# Altium schematic symbol library Microshemy.SchLib: 50 symbols
Pins are listed as number, name and electrical type; pins without a type are passive.

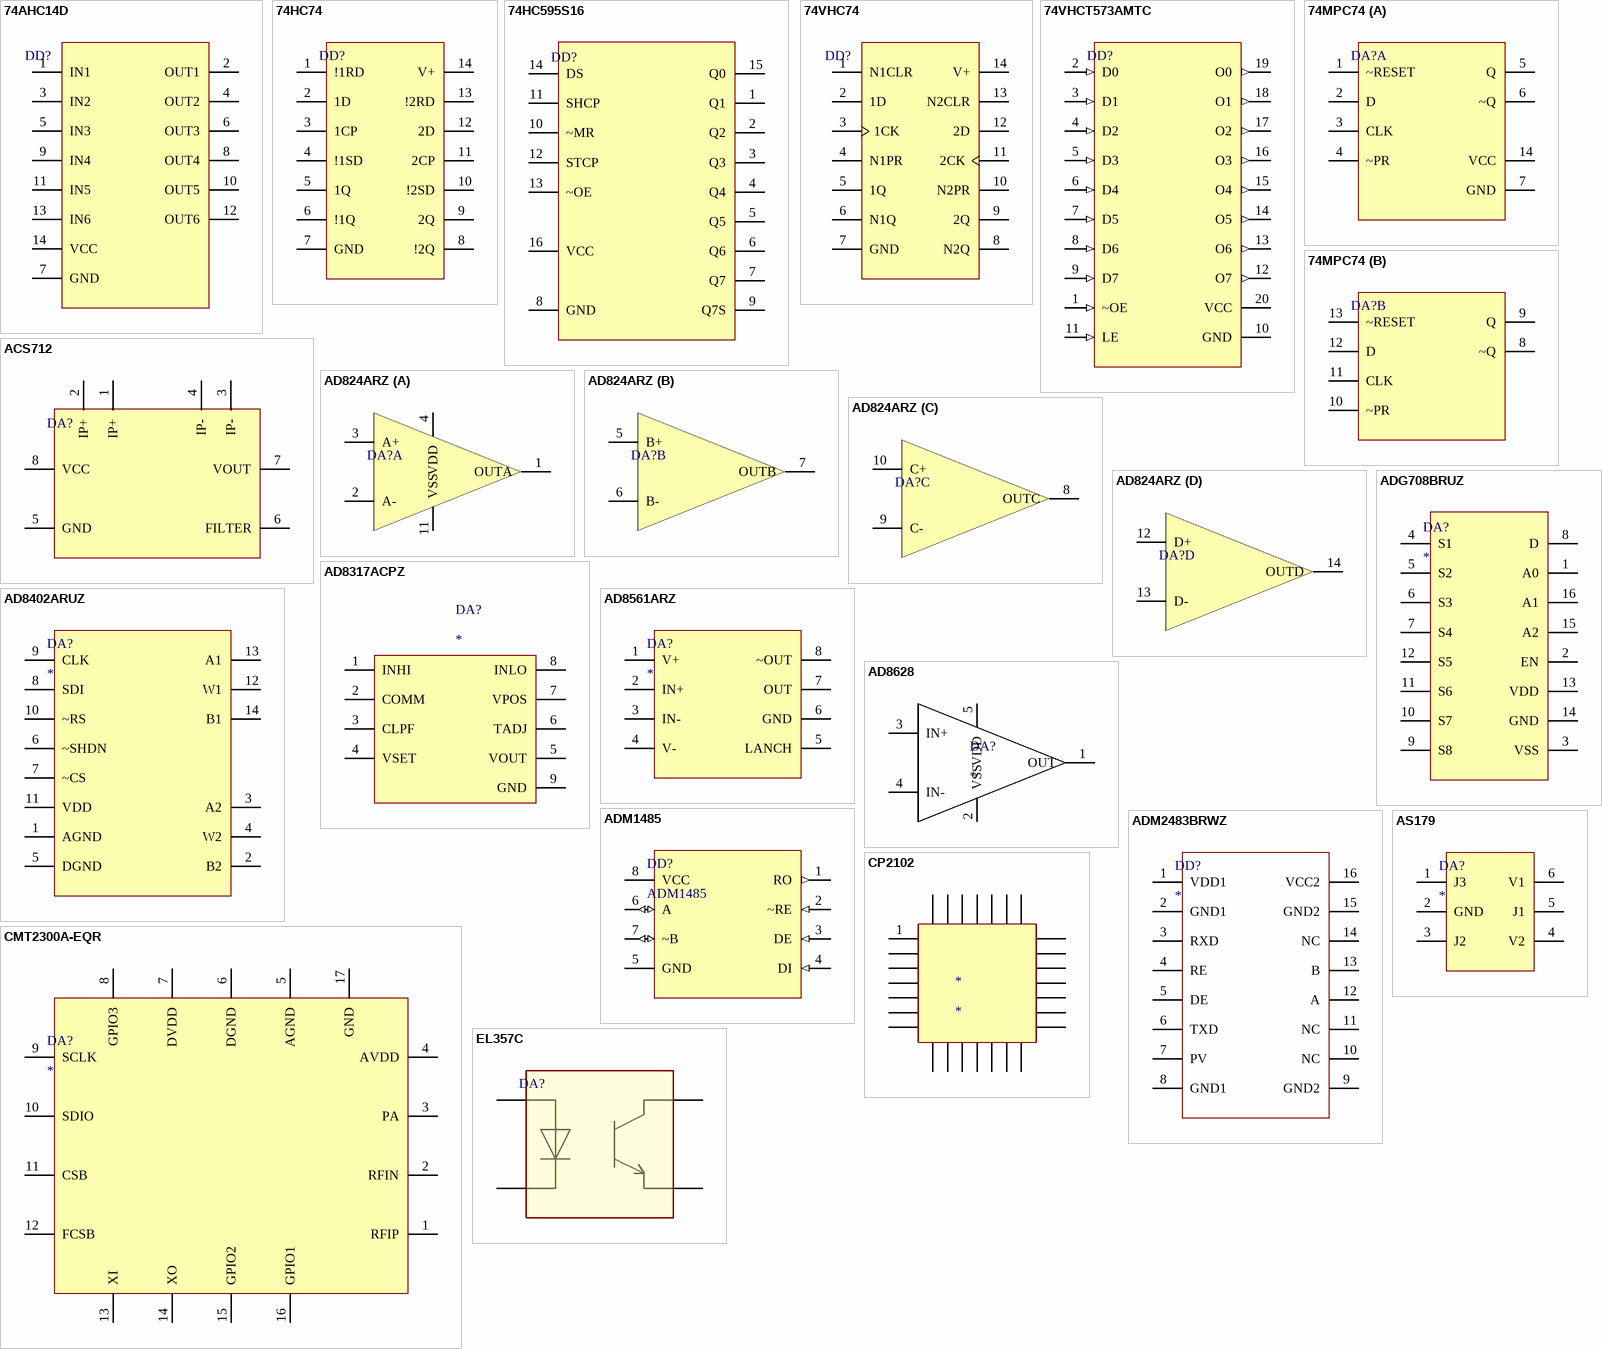
[diagram p0: symbols 74AHC14D to EL357C]

## 74AHC14D
designator DD?  (value not drawn)
footprint SOIC14
pins: 1 IN1, 2 OUT1, 3 IN2, 4 OUT2, 5 IN3, 6 OUT3, 7 GND, 8 OUT4, 9 IN4, 10 OUT5, 11 IN5, 12 OUT6, 13 IN6, 14 VCC

## 74HC74
designator DD?  (value not drawn)
footprint SOIC14
pins: 1 !1RD, 2 1D, 3 1CP, 4 !1SD, 5 1Q, 6 !1Q, 7 GND, 8 !2Q, 9 2Q, 10 !2SD, 11 2CP, 12 2D, 13 !2RD, 14 V+

## 74HC595S16
designator DD?  (value not drawn)
footprint SOIC16
pins: 1 Q1, 2 Q2, 3 Q3, 4 Q4, 5 Q5, 6 Q6, 7 Q7, 8 GND, 9 Q7S, 10 ~MR, 11 SHCP, 12 STCP, 13 ~OE, 14 DS, 15 Q0, 16 VCC

## 74VHC74
designator DD?  (value not drawn)
footprint TSOP14 (TSOP, 14-Leads, Body 5,05x4,40mm, Pitch 0,65mm, IPC Medium Density)
pins: 1 N1CLR, 2 1D, 3 1CK, 4 N1PR, 5 1Q, 6 N1Q, 7 GND, 8 N2Q, 9 2Q, 10 N2PR, 11 2CK, 12 2D, 13 N2CLR, 14 V+

## 74VHCT573AMTC
designator DD?  (value not drawn)
Order: *
footprint TSSOP-20
pins: 1 ~OE (in), 2 D0 (in), 3 D1 (in), 4 D2 (in), 5 D3 (in), 6 D4 (in), 7 D5 (in), 8 D6 (in), 9 D7 (in), 10 GND (power), 11 LE (in), 12 O7 (out), 13 O6 (out), 14 O5 (out), 15 O4 (out), 16 O3 (out), 17 O2 (out), 18 O1 (out), 19 O0 (out), 20 VCC (power)

## 74МРС74
designator DA?  (value not drawn)
footprint TSOP14 (TSOP, 14-Leads, Body 5,05x4,40mm, Pitch 0,65mm, IPC Medium Density)
part A pins: 1 ~RESET, 2 D, 3 CLK, 4 ~PR, 5 Q, 6 ~Q, 7 GND, 14 VCC
part B pins: 8 ~Q, 9 Q, 10 ~PR, 11 CLK, 12 D, 13 ~RESET

## ACS712
designator DA?  (value not drawn)
Model1: ACS712ELCTR-05B-T; Model2: ACS712ELCTR-20A-T; Model3: ACS712ELCTR-30A-T; Order: *
footprint SOIC8
pins: 1 IP+, 2 IP+, 3 IP-, 4 IP-, 5 GND, 6 FILTER, 7 VOUT, 8 VCC

## AD824ARZ
designator DA?  (value not drawn)
footprint SOIC14
part A pins: 1 OUTA, 2 A-, 3 A+, 4 VDD, 11 VSS
part B pins: 5 B+, 6 B-, 7 OUTB
part C pins: 8 OUTC, 9 C-, 10 C+
part D pins: 12 D+, 13 D-, 14 OUTD

## AD8317ACPZ
designator DA?
Логарифмический детектор
footprint LFCSP (For AD8317)
pins: 1 INHI, 2 COMM, 3 CLPF, 4 VSET, 5 VOUT, 6 TADJ, 7 VPOS, 8 INLO, 9 GND

## AD8402ARUZ
designator DA?
footprint SOIC14
pins: 1 AGND, 2 B2, 3 A2, 4 W2, 5 DGND, 6 ~SHDN, 7 ~CS, 8 SDI, 9 CLK, 10 ~RS, 11 VDD, 12 W1, 13 A1, 14 B1

## AD8561ARZ
designator DA?
footprint SOIC8
pins: 1 V+, 2 IN+, 3 IN-, 4 V-, 5 LANCH, 6 GND, 7 OUT, 8 ~OUT

## AD8628
designator DA?
footprint SOT23-5
pins: 1 OUT, 2 VSS, 3 IN+, 4 IN-, 5 VDD

## ADG708BRUZ
designator DA?
footprint TSOP16
pins: 1 A0, 2 EN, 3 VSS, 4 S1, 5 S2, 6 S3, 7 S4, 8 D, 9 S8, 10 S7, 11 S6, 12 S5, 13 VDD, 14 GND, 15 A2, 16 A1

## ADM1485
designator DD?
Order: *
footprint SOIC8
pins: 1 RO (out), 2 ~RE (in), 3 DE (in), 4 DI (in), 5 GND (power), 6 A (io), 7 ~B (io), 8 VCC (power)

## ADM2483BRWZ
designator DD?
footprint SOIC16
pins: 1 VDD1, 2 GND1, 3 RXD, 4 RE, 5 DE, 6 TXD, 7 PV, 8 GND1, 9 GND2, 10 NC, 11 NC, 12 A, 13 B, 14 NC, 15 GND2, 16 VCC2

## AS179
designator DA?
footprint SC70 (SV70 6-Leads, Body 2,00x2,20mm, Pitch 0,65mm, IPC Medium Density)
pins: 1 J3, 2 GND, 3 J2, 4 V2, 5 J1, 6 V1

## CMT2300A-EQR
designator DA?
footprint QFN16 3X3 (QFN, 16-Leads, Body 3,00x3,00mm, Pitch 0,50mm, Thermal Pad 1,65x1,65mm, IPC Medium Density)
pins: 1 RFIP, 2 RFIN, 3 PA, 4 AVDD, 5 AGND, 6 DGND, 7 DVDD, 8 GPIO3, 9 SCLK, 10 SDIO, 11 CSB, 12 FCSB, 13 XI, 14 XO, 15 GPIO2, 16 GPIO1, 17 GND

## CP2102
designator *
pins: 1, ?1, ?2, ?3, ?4, ?5, ?6, ?7, ?8, ?9, ?10, ?11, ?12, ?13, ?14, ?15, ?16, ?17, ?18, ?19, ?20, ?21, ?22, ?23, ?24, ?25, ?26, ?27

## EL357C
designator DA?  (value not drawn)
footprint SOP-4 (SOP, 4-Leads, Body 4,10x4,40mm, Pitch 1,95mm, IPC Medium Density)
pins: 1 26, 2 26, 3 E, 4 C

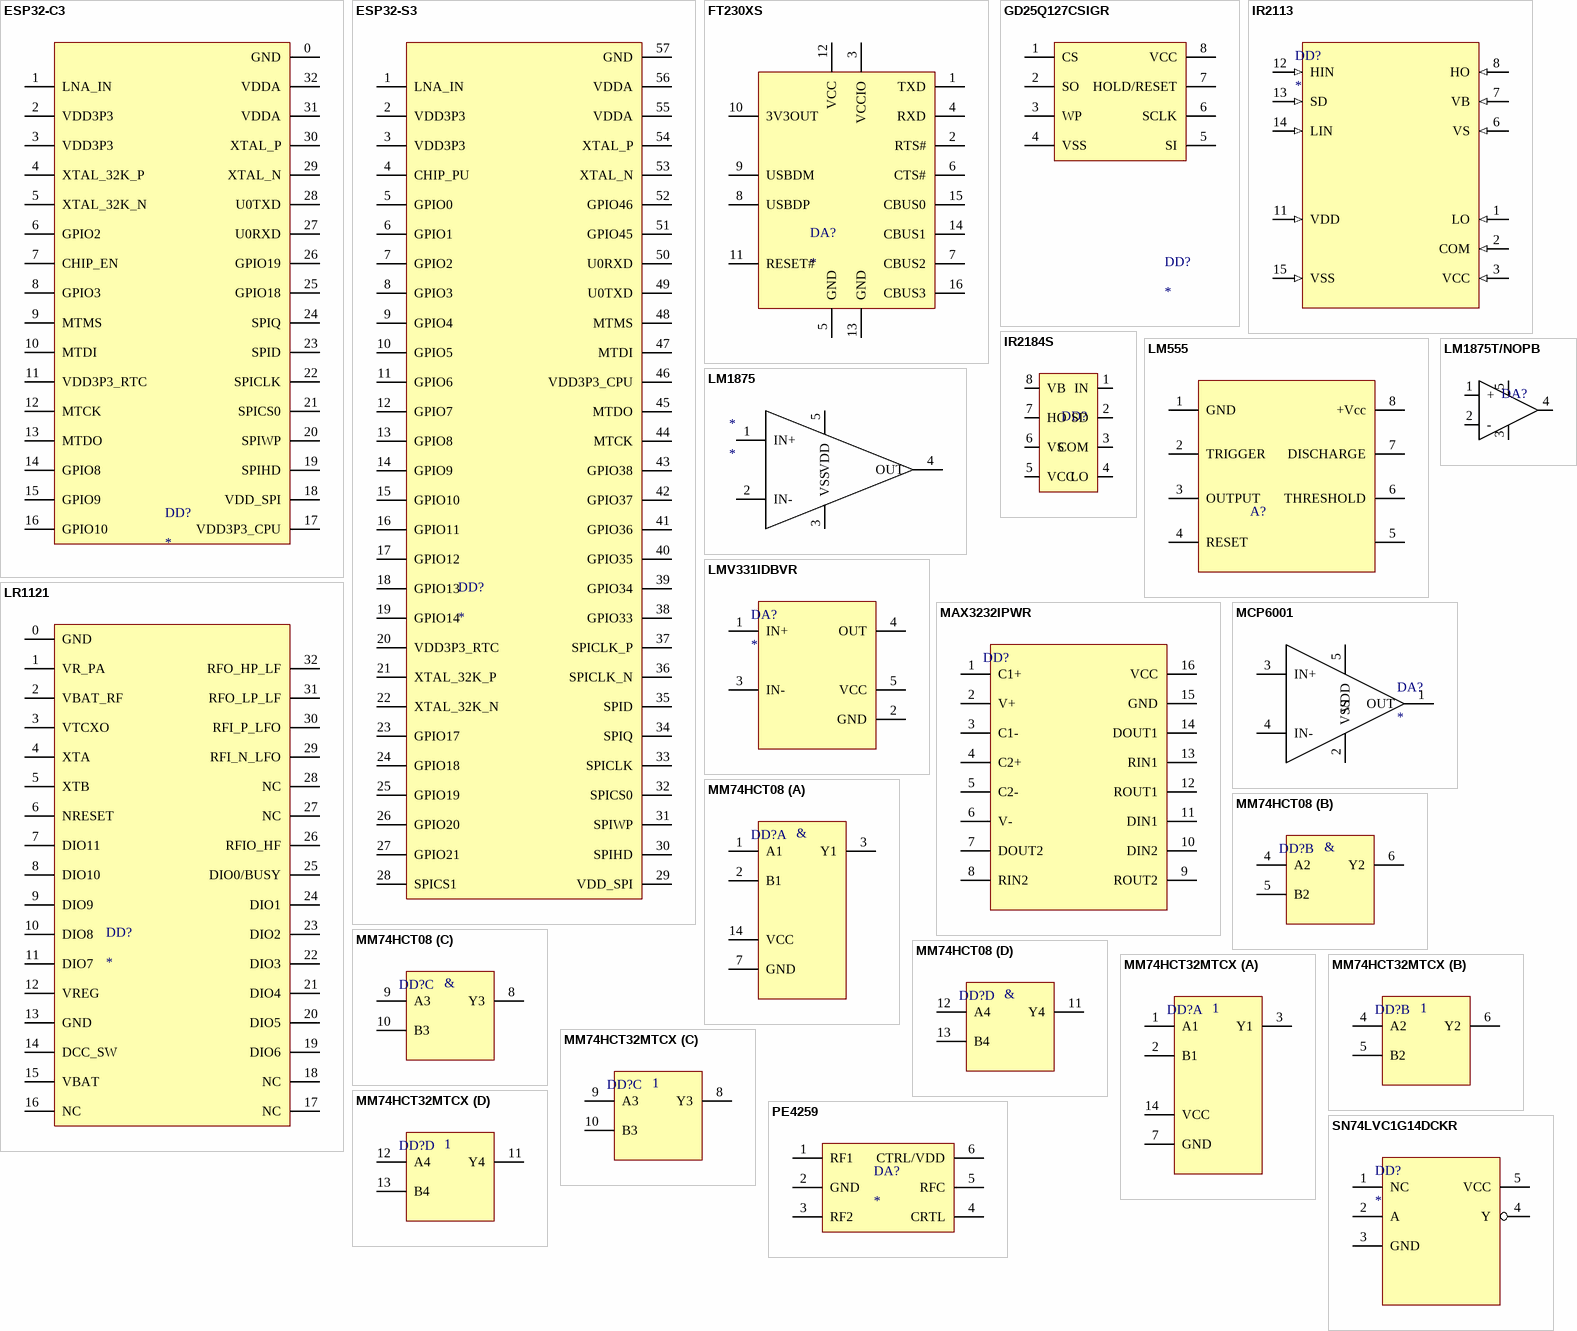
[diagram p1: symbols ESP32-C3 to SN74LVC1G14DCKR]

## ESP32-C3
designator DD?
footprint QFN32 5x5
pins: 0 GND, 1 LNA_IN, 2 VDD3P3, 3 VDD3P3, 4 XTAL_32K_P, 5 XTAL_32K_N, 6 GPIO2, 7 CHIP_EN, 8 GPIO3, 9 MTMS, 10 MTDI, 11 VDD3P3_RTC, 12 MTCK, 13 MTDO, 14 GPIO8, 15 GPIO9, 16 GPIO10, 17 VDD3P3_CPU, 18 VDD_SPI, 19 SPIHD, 20 SPIWP, 21 SPICS0, 22 SPICLK, 23 SPID, 24 SPIQ, 25 GPIO18, 26 GPIO19, 27 U0RXD, 28 U0TXD, 29 XTAL_N, 30 XTAL_P, 31 VDDA, 32 VDDA

## ESP32-S3
designator DD?
footprint QFN56 7X7
pins: 1 LNA_IN, 2 VDD3P3, 3 VDD3P3, 4 CHIP_PU, 5 GPIO0, 6 GPIO1, 7 GPIO2, 8 GPIO3, 9 GPIO4, 10 GPIO5, 11 GPIO6, 12 GPIO7, 13 GPIO8, 14 GPIO9, 15 GPIO10, 16 GPIO11, 17 GPIO12, 18 GPIO13, 19 GPIO14, 20 VDD3P3_RTC, 21 XTAL_32K_P, 22 XTAL_32K_N, 23 GPIO17, 24 GPIO18, 25 GPIO19, 26 GPIO20, 27 GPIO21, 28 SPICS1, 29 VDD_SPI, 30 SPIHD, 31 SPIWP, 32 SPICS0, 33 SPICLK, 34 SPIQ, 35 SPID, 36 SPICLK_N, 37 SPICLK_P, 38 GPIO33, 39 GPIO34, 40 GPIO35, 41 GPIO36, 42 GPIO37, 43 GPIO38, 44 MTCK, 45 MTDO, 46 VDD3P3_CPU, 47 MTDI, 48 MTMS, 49 U0TXD, 50 U0RXD, 51 GPIO45, 52 GPIO46, 53 XTAL_N, 54 XTAL_P, 55 VDDA, 56 VDDA, 57 GND

## FT230XS
designator DA?
footprint TSOP16
pins: 1 TXD, 2 RTS#, 3 VCCIO, 4 RXD, 5 GND, 6 CTS#, 7 CBUS2, 8 USBDP, 9 USBDM, 10 3V3OUT, 11 RESET#, 12 VCC, 13 GND, 14 CBUS1, 15 CBUS0, 16 CBUS3

## GD25Q127CSIGR
designator DD?
footprint SOIC8
pins: 1 CS, 2 SO, 3 WP, 4 VSS, 5 SI, 6 SCLK, 7 HOLD/RESET, 8 VCC

## IR2113
designator DD?
Order: *
footprint SOIC16
pins: 1 LO (in), 2 COM (in), 3 VCC (in), 6 VS (in), 7 VB (in), 8 HO (in), 11 VDD (in), 12 HIN (in), 13 SD (in), 14 LIN (in), 15 VSS (in)

## IR2184S
designator DD?
footprint SOIC8
pins: 1 IN, 2 SD, 3 COM, 4 LO, 5 VCC, 6 VS, 7 HO, 8 VB

## LM555
designator A?
Таймер
footprint SOIC8
pins: 1 GND, 2 TRIGGER, 3 OUTPUT, 4 RESET, 5 CONTROL, 6 THRESHOLD, 7 DISCHARGE, 8 +Vcc

## LM1875
designator *
pins: 1 IN+, 2 IN-, 3 VSS, 4 OUT, 5 VDD

## LM1875T/NOPB
designator DA?
footprint NDH0005D
pins: 1 +, 2 -, 3, 4, 5

## LMV331IDBVR
designator DA?
footprint SOT23-5
pins: 1 IN+, 2 GND, 3 IN-, 4 OUT, 5 VCC

## LR1121
designator DD?
footprint QFN32 5x5
pins: 0 GND, 1 VR_PA, 2 VBAT_RF, 3 VTCXO, 4 XTA, 5 XTB, 6 NRESET, 7 DIO11, 8 DIO10, 9 DIO9, 10 DIO8, 11 DIO7, 12 VREG, 13 GND, 14 DCC_SW, 15 VBAT, 16 NC, 17 NC, 18 NC, 19 DIO6, 20 DIO5, 21 DIO4, 22 DIO3, 23 DIO2, 24 DIO1, 25 DIO0/BUSY, 26 RFIO_HF, 27 NC, 28 NC, 29 RFI_N_LFO, 30 RFI_P_LFO, 31 RFO_LP_LF, 32 RFO_HP_LF

## MAX3232IPWR
designator DD?  (value not drawn)
footprint TSOP16
pins: 1 C1+, 2 V+, 3 C1-, 4 C2+, 5 C2-, 6 V-, 7 DOUT2, 8 RIN2, 9 ROUT2, 10 DIN2, 11 DIN1, 12 ROUT1, 13 RIN1, 14 DOUT1, 15 GND, 16 VCC

## MCP6001
designator DA?
footprint SOT23-5
pins: 1 OUT, 2 VSS, 3 IN+, 4 IN-, 5 VDD

## MM74HCT08
designator DD?  (value not drawn)
footprint TSOP14 (TSOP, 14-Leads, Body 5,05x4,40mm, Pitch 0,65mm, IPC Medium Density)
part A pins: 1 A1, 2 B1, 3 Y1, 7 GND, 14 VCC
part B pins: 4 A2, 5 B2, 6 Y2
part C pins: 8 Y3, 9 A3, 10 B3
part D pins: 11 Y4, 12 A4, 13 B4
part A text: &
part B text: &
part C text: &
part D text: &

## MM74HCT32MTCX
designator DD?  (value not drawn)
footprint TSOP14 (TSOP, 14-Leads, Body 5,05x4,40mm, Pitch 0,65mm, IPC Medium Density)
part A pins: 1 A1, 2 B1, 3 Y1, 7 GND, 14 VCC
part B pins: 4 A2, 5 B2, 6 Y2
part C pins: 8 Y3, 9 A3, 10 B3
part D pins: 11 Y4, 12 A4, 13 B4

## PE4259
designator DA?
footprint SC70-6 (SV70 6-Leads, Body 2,00x2,20mm, Pitch 0,65mm, IPC Medium Density)
pins: 1 RF1, 2 GND, 3 RF2, 4 CRTL, 5 RFC, 6 CTRL/VDD

## SN74LVC1G14DCKR
designator DD?
footprint SOT23-5
pins: 1 NC, 2 A, 3 GND, 4 Y, 5 VCC

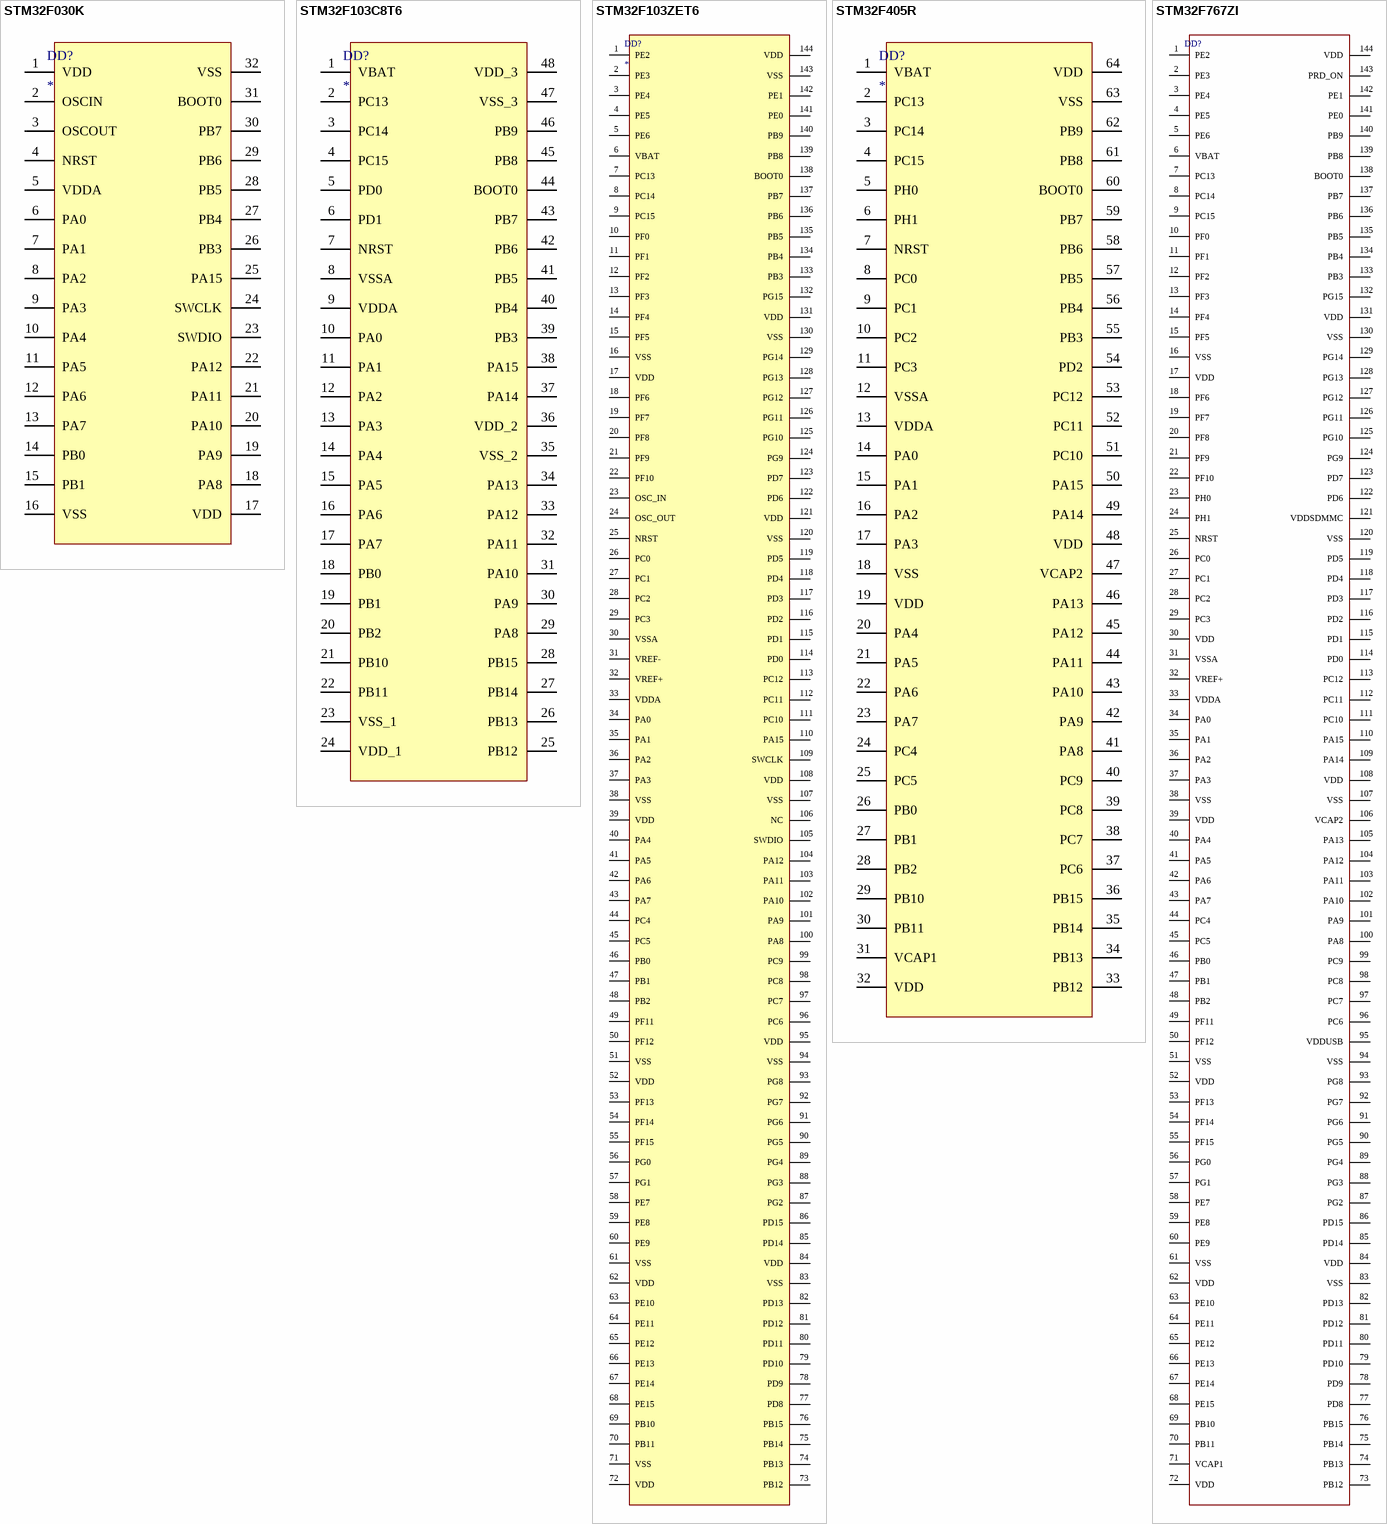
[diagram p2: symbols STM32F030K to STM32F767ZI]

## STM32F030K
designator DD?
footprint LQFP32 (LQFP, 32-Leads, Body 7,00x7,00mm, Pitch 0,80mm, IPC Medium Density)
pins: 1 VDD, 2 OSCIN, 3 OSCOUT, 4 NRST, 5 VDDA, 6 PA0, 7 PA1, 8 PA2, 9 PA3, 10 PA4, 11 PA5, 12 PA6, 13 PA7, 14 PB0, 15 PB1, 16 VSS, 17 VDD, 18 PA8, 19 PA9, 20 PA10, 21 PA11, 22 PA12, 23 SWDIO, 24 SWCLK, 25 PA15, 26 PB3, 27 PB4, 28 PB5, 29 PB6, 30 PB7, 31 BOOT0, 32 VSS

## STM32F103C8T6
designator DD?
footprint LQFP48 (CQFP, 48-Leads, Body 9,00x9,00mm, Pitch 0,50mm, IPC Medium Density)
pins: 1 VBAT, 2 PC13, 3 PC14, 4 PC15, 5 PD0, 6 PD1, 7 NRST, 8 VSSA, 9 VDDA, 10 PA0, 11 PA1, 12 PA2, 13 PA3, 14 PA4, 15 PA5, 16 PA6, 17 PA7, 18 PB0, 19 PB1, 20 PB2, 21 PB10, 22 PB11, 23 VSS_1, 24 VDD_1, 25 PB12 (oc), 26 PB13 (oc), 27 PB14 (oc), 28 PB15 (oc), 29 PA8 (oc), 30 PA9 (oc), 31 PA10 (oc), 32 PA11 (oc), 33 PA12 (oc), 34 PA13 (oc), 35 VSS_2 (oc), 36 VDD_2 (oc), 37 PA14 (oc), 38 PA15 (oc), 39 PB3 (oc), 40 PB4 (oc), 41 PB5 (oc), 42 PB6 (oc), 43 PB7 (oc), 44 BOOT0 (oc), 45 PB8 (oc), 46 PB9 (oc), 47 VSS_3 (oc), 48 VDD_3 (oc)

## STM32F103ZET6
designator DD?
footprint LQFP144
pins: 1 PE2, 2 PE3, 3 PE4, 4 PE5, 5 PE6, 6 VBAT, 7 PC13, 8 PC14, 9 PC15, 10 PF0, 11 PF1, 12 PF2, 13 PF3, 14 PF4, 15 PF5, 16 VSS, 17 VDD, 18 PF6, 19 PF7, 20 PF8, 21 PF9, 22 PF10, 23 OSC_IN, 24 OSC_OUT, 25 NRST, 26 PC0, 27 PC1, 28 PC2, 29 PC3, 30 VSSA, 31 VREF-, 32 VREF+, 33 VDDA, 34 PA0, 35 PA1, 36 PA2, 37 PA3, 38 VSS, 39 VDD, 40 PA4, 41 PA5, 42 PA6, 43 PA7, 44 PC4, 45 PC5, 46 PB0, 47 PB1, 48 PB2, 49 PF11, 50 PF12, 51 VSS, 52 VDD, 53 PF13, 54 PF14, 55 PF15, 56 PG0, 57 PG1, 58 PE7, 59 PE8, 60 PE9, 61 VSS, 62 VDD, 63 PE10, 64 PE11, 65 PE12, 66 PE13, 67 PE14, 68 PE15, 69 PB10, 70 PB11, 71 VSS, 72 VDD, 73 PB12, 74 PB13, 75 PB14, 76 PB15, 77 PD8, 78 PD9, 79 PD10, 80 PD11, 81 PD12, 82 PD13, 83 VSS, 84 VDD, 85 PD14, 86 PD15, 87 PG2, 88 PG3, 89 PG4, 90 PG5, 91 PG6, 92 PG7, 93 PG8, 94 VSS, 95 VDD, 96 PC6, 97 PC7, 98 PC8, 99 PC9, 100 PA8, 101 PA9, 102 PA10, 103 PA11, 104 PA12, 105 SWDIO, 106 NC, 107 VSS, 108 VDD, 109 SWCLK, 110 PA15, 111 PC10, 112 PC11, 113 PC12, 114 PD0, 115 PD1, 116 PD2, 117 PD3, 118 PD4, 119 PD5, 120 VSS, 121 VDD, 122 PD6, 123 PD7, 124 PG9, 125 PG10, 126 PG11, 127 PG12, 128 PG13, 129 PG14, 130 VSS, 131 VDD, 132 PG15, 133 PB3, 134 PB4, 135 PB5, 136 PB6, 137 PB7, 138 BOOT0, 139 PB8, 140 PB9, 141 PE0, 142 PE1, 143 VSS, 144 VDD

## STM32F405R
designator DD?
footprint LQFP64
pins: 1 VBAT, 2 PC13, 3 PC14, 4 PC15, 5 PH0, 6 PH1, 7 NRST, 8 PC0, 9 PC1, 10 PC2, 11 PC3, 12 VSSA, 13 VDDA, 14 PA0, 15 PA1, 16 PA2, 17 PA3, 18 VSS, 19 VDD, 20 PA4, 21 PA5, 22 PA6, 23 PA7, 24 PC4, 25 PC5, 26 PB0, 27 PB1, 28 PB2, 29 PB10, 30 PB11, 31 VCAP1, 32 VDD, 33 PB12, 34 PB13, 35 PB14, 36 PB15, 37 PC6, 38 PC7, 39 PC8, 40 PC9, 41 PA8, 42 PA9, 43 PA10, 44 PA11, 45 PA12, 46 PA13, 47 VCAP2, 48 VDD, 49 PA14, 50 PA15, 51 PC10, 52 PC11, 53 PC12, 54 PD2, 55 PB3, 56 PB4, 57 PB5, 58 PB6, 59 PB7, 60 BOOT0, 61 PB8, 62 PB9, 63 VSS, 64 VDD

## STM32F767ZI
designator DD?  (value not drawn)
footprint LQFP144
pins: 1 PE2, 2 PE3, 3 PE4, 4 PE5, 5 PE6, 6 VBAT, 7 PC13, 8 PC14, 9 PC15, 10 PF0, 11 PF1, 12 PF2, 13 PF3, 14 PF4, 15 PF5, 16 VSS, 17 VDD, 18 PF6, 19 PF7, 20 PF8, 21 PF9, 22 PF10, 23 PH0, 24 PH1, 25 NRST, 26 PC0, 27 PC1, 28 PC2, 29 PC3, 30 VDD, 31 VSSA, 32 VREF+, 33 VDDA, 34 PA0, 35 PA1, 36 PA2, 37 PA3, 38 VSS, 39 VDD, 40 PA4, 41 PA5, 42 PA6, 43 PA7, 44 PC4, 45 PC5, 46 PB0, 47 PB1, 48 PB2, 49 PF11, 50 PF12, 51 VSS, 52 VDD, 53 PF13, 54 PF14, 55 PF15, 56 PG0, 57 PG1, 58 PE7, 59 PE8, 60 PE9, 61 VSS, 62 VDD, 63 PE10, 64 PE11, 65 PE12, 66 PE13, 67 PE14, 68 PE15, 69 PB10, 70 PB11, 71 VCAP1, 72 VDD, 73 PB12, 74 PB13, 75 PB14, 76 PB15, 77 PD8, 78 PD9, 79 PD10, 80 PD11, 81 PD12, 82 PD13, 83 VSS, 84 VDD, 85 PD14, 86 PD15, 87 PG2, 88 PG3, 89 PG4, 90 PG5, 91 PG6, 92 PG7, 93 PG8, 94 VSS, 95 VDDUSB, 96 PC6, 97 PC7, 98 PC8, 99 PC9, 100 PA8, 101 PA9, 102 PA10, 103 PA11, 104 PA12, 105 PA13, 106 VCAP2, 107 VSS, 108 VDD, 109 PA14, 110 PA15, 111 PC10, 112 PC11, 113 PC12, 114 PD0, 115 PD1, 116 PD2, 117 PD3, 118 PD4, 119 PD5, 120 VSS, 121 VDDSDMMC, 122 PD6, 123 PD7, 124 PG9, 125 PG10, 126 PG11, 127 PG12, 128 PG13, 129 PG14, 130 VSS, 131 VDD, 132 PG15, 133 PB3, 134 PB4, 135 PB5, 136 PB6, 137 PB7, 138 BOOT0, 139 PB8, 140 PB9, 141 PE0, 142 PE1, 143 PRD_ON, 144 VDD

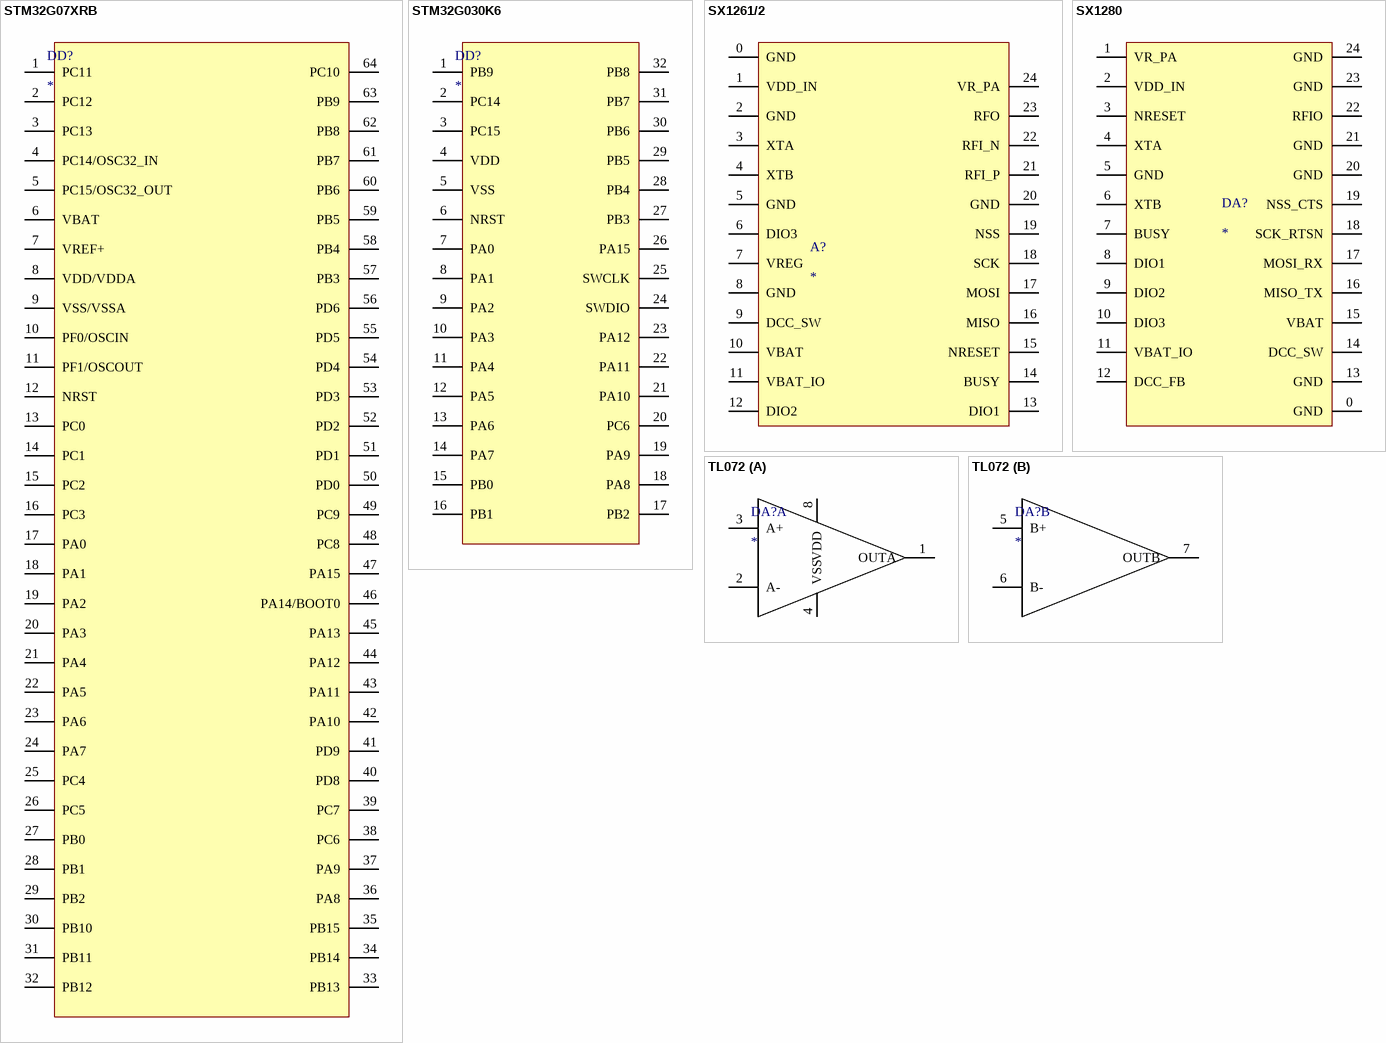
[diagram p3: symbols STM32G07XRB to TL072]

## STM32G07XRB
designator DD?
footprint LQFP64
pins: 1 PC11, 2 PC12, 3 PC13, 4 PC14/OSC32_IN, 5 PC15/OSC32_OUT, 6 VBAT, 7 VREF+, 8 VDD/VDDA, 9 VSS/VSSA, 10 PF0/OSCIN, 11 PF1/OSCOUT, 12 NRST, 13 PC0, 14 PC1, 15 PC2, 16 PC3, 17 PA0, 18 PA1, 19 PA2, 20 PA3, 21 PA4, 22 PA5, 23 PA6, 24 PA7, 25 PC4, 26 PC5, 27 PB0, 28 PB1, 29 PB2, 30 PB10, 31 PB11, 32 PB12, 33 PB13, 34 PB14, 35 PB15, 36 PA8, 37 PA9, 38 PC6, 39 PC7, 40 PD8, 41 PD9, 42 PA10, 43 PA11, 44 PA12, 45 PA13, 46 PA14/BOOT0, 47 PA15, 48 PC8, 49 PC9, 50 PD0, 51 PD1, 52 PD2, 53 PD3, 54 PD4, 55 PD5, 56 PD6, 57 PB3, 58 PB4, 59 PB5, 60 PB6, 61 PB7, 62 PB8, 63 PB9, 64 PC10

## STM32G030K6
designator DD?
footprint LQFP32 (LQFP, 32-Leads, Body 7,00x7,00mm, Pitch 0,80mm, IPC Medium Density)
pins: 1 PB9, 2 PC14, 3 PC15, 4 VDD, 5 VSS, 6 NRST, 7 PA0, 8 PA1, 9 PA2, 10 PA3, 11 PA4, 12 PA5, 13 PA6, 14 PA7, 15 PB0, 16 PB1, 17 PB2, 18 PA8, 19 PA9, 20 PC6, 21 PA10, 22 PA11, 23 PA12, 24 SWDIO, 25 SWCLK, 26 PA15, 27 PB3, 28 PB4, 29 PB5, 30 PB6, 31 PB7, 32 PB8

## SX1261/2
designator A?
footprint QFN24 4x4
pins: 0 GND, 1 VDD_IN, 2 GND, 3 XTA, 4 XTB, 5 GND, 6 DIO3, 7 VREG, 8 GND, 9 DCC_SW, 10 VBAT, 11 VBAT_IO, 12 DIO2, 13 DIO1, 14 BUSY, 15 NRESET, 16 MISO, 17 MOSI, 18 SCK, 19 NSS, 20 GND, 21 RFI_P, 22 RFI_N, 23 RFO, 24 VR_PA

## SX1280
designator DA?
footprint QFN24 4x4
pins: 0 GND, 1 VR_PA, 2 VDD_IN, 3 NRESET, 4 XTA, 5 GND, 6 XTB, 7 BUSY, 8 DIO1, 9 DIO2, 10 DIO3, 11 VBAT_IO, 12 DCC_FB, 13 GND, 14 DCC_SW, 15 VBAT, 16 MISO_TX, 17 MOSI_RX, 18 SCK_RTSN, 19 NSS_CTS, 20 GND, 21 GND, 22 RFIO, 23 GND, 24 GND

## TL072
designator DA?
footprint SOIC8
part A pins: 1 OUTA, 2 A-, 3 A+, 4 VSS, 8 VDD
part B pins: 5 B+, 6 B-, 7 OUTB

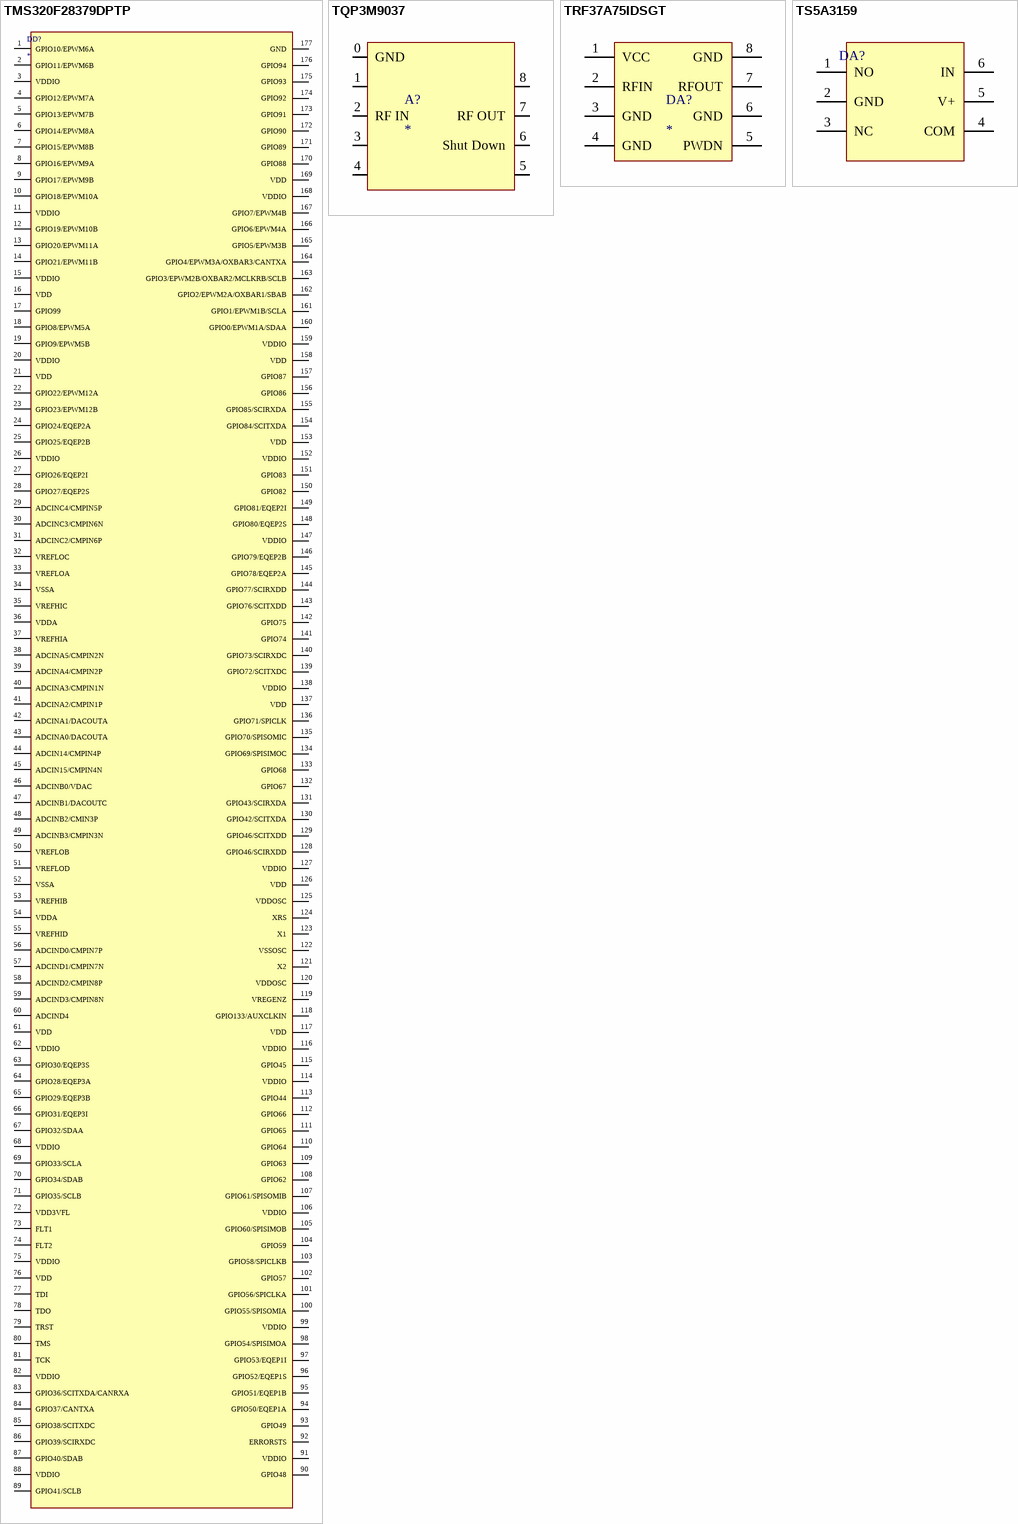
[diagram p4: symbols TMS320F28379DPTP to TS5A3159]

## TMS320F28379DPTP
designator DD?
Order: TMS320F28379DPTP
pins: 1 GPIO10/EPWM6A, 2 GPIO11/EPWM6B, 3 VDDIO, 4 GPIO12/EPWM7A, 5 GPIO13/EPWM7B, 6 GPIO14/EPWM8A, 7 GPIO15/EPWM8B, 8 GPIO16/EPWM9A, 9 GPIO17/EPWM9B, 10 GPIO18/EPWM10A, 11 VDDIO, 12 GPIO19/EPWM10B, 13 GPIO20/EPWM11A, 14 GPIO21/EPWM11B, 15 VDDIO, 16 VDD, 17 GPIO99, 18 GPIO8/EPWM5A, 19 GPIO9/EPWM5B, 20 VDDIO, 21 VDD, 22 GPIO22/EPWM12A, 23 GPIO23/EPWM12B, 24 GPIO24/EQEP2A, 25 GPIO25/EQEP2B, 26 VDDIO, 27 GPIO26/EQEP2I, 28 GPIO27/EQEP2S, 29 ADCINC4/CMPIN5P, 30 ADCINC3/CMPIN6N, 31 ADCINC2/CMPIN6P, 32 VREFLOC, 33 VREFLOA, 34 VSSA, 35 VREFHIC, 36 VDDA, 37 VREFHIA, 38 ADCINA5/CMPIN2N, 39 ADCINA4/CMPIN2P, 40 ADCINA3/CMPIN1N, 41 ADCINA2/CMPIN1P, 42 ADCINA1/DACOUTA, 43 ADCINA0/DACOUTA, 44 ADCIN14/CMPIN4P, 45 ADCIN15/CMPIN4N, 46 ADCINB0/VDAC, 47 ADCINB1/DACOUTC, 48 ADCINB2/CMIN3P, 49 ADCINB3/CMPIN3N, 50 VREFLOB, 51 VREFLOD, 52 VSSA, 53 VREFHIB, 54 VDDA, 55 VREFHID, 56 ADCIND0/CMPIN7P, 57 ADCIND1/CMPIN7N, 58 ADCIND2/CMPIN8P, 59 ADCIND3/CMPIN8N, 60 ADCIND4, 61 VDD, 62 VDDIO, 63 GPIO30/EQEP3S, 64 GPIO28/EQEP3A, 65 GPIO29/EQEP3B, 66 GPIO31/EQEP3I, 67 GPIO32/SDAA, 68 VDDIO, 69 GPIO33/SCLA, 70 GPIO34/SDAB, 71 GPIO35/SCLB, 72 VDD3VFL, 73 FLT1, 74 FLT2, 75 VDDIO, 76 VDD, 77 TDI, 78 TDO, 79 TRST, 80 TMS, 81 TCK, 82 VDDIO, 83 GPIO36/SCITXDA/CANRXA, 84 GPIO37/CANTXA, 85 GPIO38/SCITXDC, 86 GPIO39/SCIRXDC, 87 GPIO40/SDAB, 88 VDDIO, 89 GPIO41/SCLB, 90 GPIO48, 91 VDDIO, 92 ERRORSTS, 93 GPIO49, 94 GPIO50/EQEP1A, 95 GPIO51/EQEP1B, 96 GPIO52/EQEP1S, 97 GPIO53/EQEP1I, 98 GPIO54/SPISIMOA, 99 VDDIO, 100 GPIO55/SPISOMIA, 101 GPIO56/SPICLKA, 102 GPIO57, 103 GPIO58/SPICLKB, 104 GPIO59, 105 GPIO60/SPISIMOB, 106 VDDIO, 107 GPIO61/SPISOMIB, 108 GPIO62, 109 GPIO63, 110 GPIO64, 111 GPIO65, 112 GPIO66, 113 GPIO44, 114 VDDIO, 115 GPIO45, 116 VDDIO, 117 VDD, 118 GPIO133/AUXCLKIN, 119 VREGENZ, 120 VDDOSC, 121 X2, 122 VSSOSC, 123 X1, 124 XRS, 125 VDDOSC, 126 VDD, 127 VDDIO, 128 GPIO46/SCIRXDD, 129 GPIO46/SCITXDD, 130 GPIO42/SCITXDA, 131 GPIO43/SCIRXDA, 132 GPIO67, 133 GPIO68, 134 GPIO69/SPISIMOC, 135 GPIO70/SPISOMIC, 136 GPIO71/SPICLK, 137 VDD, 138 VDDIO, 139 GPIO72/SCITXDC, 140 GPIO73/SCIRXDC, 141 GPIO74, 142 GPIO75, 143 GPIO76/SCITXDD, 144 GPIO77/SCIRXDD, 145 GPIO78/EQEP2A, 146 GPIO79/EQEP2B, 147 VDDIO, 148 GPIO80/EQEP2S, 149 GPIO81/EQEP2I, 150 GPIO82, 151 GPIO83, 152 VDDIO, 153 VDD, 154 GPIO84/SCITXDA, 155 GPIO85/SCIRXDA, 156 GPIO86, 157 GPIO87, 158 VDD, 159 VDDIO, 160 GPIO0/EPWM1A/SDAA, 161 GPIO1/EPWM1B/SCLA, 162 GPIO2/EPWM2A/OXBAR1/SBAB, 163 GPIO3/EPWM2B/OXBAR2/MCLKRB/SCLB, 164 GPIO4/EPWM3A/OXBAR3/CANTXA, 165 GPIO5/EPWM3B, 166 GPIO6/EPWM4A, 167 GPIO7/EPWM4B, 168 VDDIO, 169 VDD, 170 GPIO88, 171 GPIO89, 172 GPIO90, 173 GPIO91, 174 GPIO92, 175 GPIO93, 176 GPIO94, 177 GND

## TQP3M9037
designator A?
footprint DFN8 2x2
pins: 0 GND, 1, 2 RF IN, 3, 4, 5, 6 Shut Down, 7 RF OUT, 8

## TRF37A75IDSGT
designator DA?
Радиочастотный усилитель 40-6000 MHz
footprint WSON-8
pins: 1 VCC, 2 RFIN, 3 GND, 4 GND, 5 PWDN, 6 GND, 7 RFOUT, 8 GND

## TS5A3159
designator DA?  (value not drawn)
footprint SOT23-6
pins: 1 NO, 2 GND, 3 NC, 4 COM, 5 V+, 6 IN